# Altium footprint library TAOGLAS_GGBLA.125.A_CornerMount.PcbLib: 1 footprints
Each footprint in its own frame and in the unit in brackets; x right, y up, seen from the top. Pads: shape width x height; smd on the part's side, far side on the other; paste and mask are expansions set on the pad; w line width, h text height; cw(c..) or ccw(c..) is an arc to the next point about the centre after c.
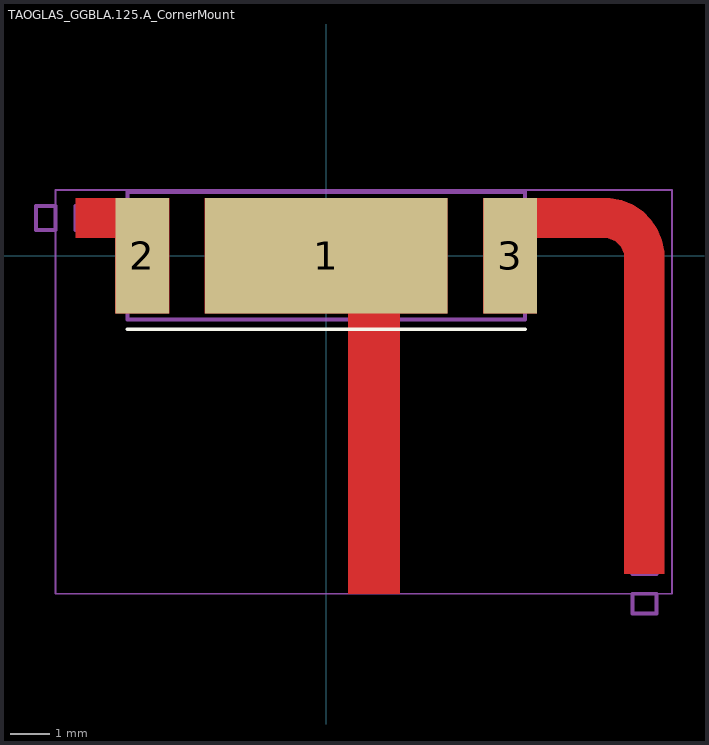
[diagram p0: the footprint, top view; thin cyan lines are the x and y axes]

## TAOGLAS_GGBLA.125.A_CornerMount [mm] "GPS L1/L2/L5/L6, GLONASS, BeiDou Ceramic Loop Antenna for cm-Level with RTK"
pads (3):
  rect 6.1x2.9 smd paste+0 mask+0.1: 1(0,0)
  rect 1.35x2.9 smd paste+0 mask+0.1: 2(-4.625,0) 3(4.625,0)
Top Layer:
  region: 5.3,-1.45 5.3,0.45 7,0.45 7.098,0.44 7.278,0.366 7.416,0.228 7.49,0.048 7.5,-0.05 7.5,-8 8.5,-8 8.5,-0.05 8.5,0.098 8.442,0.388 8.329,0.661 8.165,0.906 7.956,1.115 7.711,1.279 7.438,1.392 7.148,1.45 7,1.45 3.95,1.45 3.95,-1.45
  region: -5.3,-1.45 -5.3,0.45 -6.3,0.45 -6.3,1.45 -3.95,1.45 -3.95,-1.45
  region: -3.05,-1.45 0.55,-1.45 0.55,-8.5 1.85,-8.5 1.85,-1.45 3.05,-1.45 3.05,1.45 -3.05,1.45
Top Overlay:
  lines w0.1: -5,-1.85 5,-1.85
Assembly Outline:
  lines w0.1: -5,-1.6 5,-1.6 5,1.6 -5,1.6 -5,-1.6
  text ".Designator" at -4.998,-0.333 h1
Application Notes:
  lines w0.05: -6.8,-8.5 8.7,-8.5 8.7,1.65 -6.8,1.65 -6.8,-8.5
  lines w0.1: -7.3,0.65 -7.3,1.25 -6.8,1.25 -6.8,0.65 -7.3,0.65 ; -6.3,0.65 -6.3,1.25 -5.8,1.25 -5.8,0.65 -6.3,0.65 ; 7.7,-9 7.7,-8.5 8.3,-8.5 8.3,-9 7.7,-9 ; 7.7,-8 8.3,-8 8.3,-7.5 7.7,-7.5 7.7,-8
  text "PCB EDGE" at 8.9,-1.509 h0.5
  text "FEED" at -1.416,-2.5 h0.5
  text "PCB EDGE" at -0.966,1.85 h0.5
  text "<- Place 0 Ohm 0402 Resistor here" at 8.45,-8.875 h0.25
  text "Place 0 Ohm 0402 Resistor here ->" at -15.547,0.825 h0.25
  text "FTE" at 5.525,-0.25 h0.5
  text "FTE" at -5.291,-2.5 h0.5
  text "COPPER KEEPOUT (ALL LAYERS)" at -6.15,-8.4 h0.25
  text "Please see the datasheet for further information" at -6.15,-8.9 h0.25
3D body "GGBLA.125.A.STEP": height 1.5, standoff 0, extent -5,-1.6 5,1.6